# Altium integrated library ST Comm PCM Circuit.IntLib: 2 symbols
Pins are listed as number, name and electrical type; pins without a type are passive.

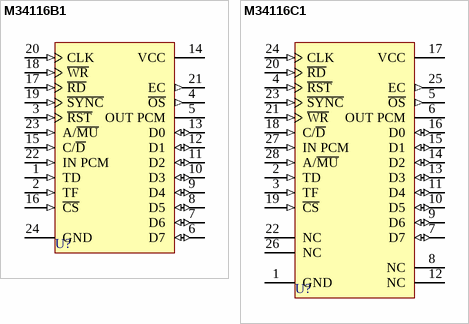
[diagram p0: symbols M34116B1 to M34116C1]

## M34116B1
designator U?
PCM Conference Call and Tone Generation Circuit; Published: 24-Aug-2001; LatestRevisionDate: 17-Jul-2002; LatestRevisionNote: Re-released for DXP Platform.; DatasheetDocument: Jan-1995; PackageDocument: Jan-1995; PackageReference: PDIP24; Publisher: Altium Limited
footprint PDIP24 (DIP; 24 Leads; Row Spacing 15.24 mm; Pitch 2.54 mm)
pins: 1 TD (in), 2 TF (in), 3 ~{RST} (in), 4 ~{OS} (out), 5 OUT PCM (oc), 6 D7 (io), 7 D6 (io), 8 D5 (io), 9 D4 (io), 10 D3 (io), 11 D2 (io), 12 D1 (io), 13 D0 (io), 14 VCC (power), 15 C/~{D} (in), 16 ~{CS} (in), 17 ~{RD} (in), 18 ~{WR} (in), 19 ~{SYNC} (in), 20 CLK (in), 21 EC (out), 22 IN PCM (in), 23 A/~{MU} (in), 24 GND (power)

## M34116C1
designator U?
PCM Conference Call and Tone Generation Circuit; Published: 24-Aug-2001; LatestRevisionDate: 17-Jul-2002; LatestRevisionNote: Re-released for DXP Platform.; DatasheetDocument: Jan-1995; PackageDocument: Jan-1995; PackageReference: PLCC28; Publisher: Altium Limited; Code_IPC: PLCC-28
footprint PLCC28 (Leaded Chip Carrier; 28 Leads; Body 11.5 x 11.5 mm)
pins: 1 GND (power), 2 TD (in), 3 TF (in), 4 ~{RST} (in), 5 ~{OS} (out), 6 OUT PCM (oc), 7 D7 (io), 8 NC, 9 D6 (io), 10 D5 (io), 11 D4 (io), 12 NC, 13 D3 (io), 14 D2 (io), 15 D1 (io), 16 D0 (io), 17 VCC (power), 18 C/~{D} (in), 19 ~{CS} (in), 20 ~{RD} (in), 21 ~{WR} (in), 22 NC, 23 ~{SYNC} (in), 24 CLK (in), 25 EC (out), 26 NC, 27 IN PCM (in), 28 A/~{MU} (in)